# EAGLE library part PIC16F15376_CURIOSITY_NANO (library Microchip_Curiosity_Nano)
Microchip PIC16F15376 Curiosity Nano Development Platform for PIC16F15376 MCU Created by Giovanni Bernardo www.settorezero.com Description PIC16F15376 Curiosity Nano Evaluation Kit. Part NO. DM164148 Link to Microchip webpage about PIC16F15376 Curiosity Nano <https://www.microchip.com/DevelopmentTools/ProductDetails/PartNO/DM164148>
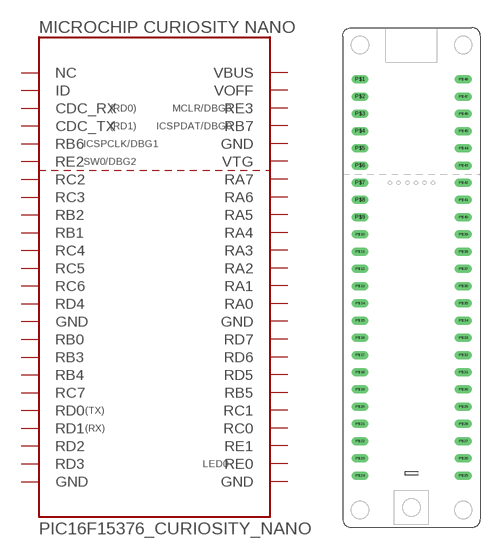
[diagram p0: symbol with the pads of 48PIN_CURIOSITY_NANO; footprint 48PIN_CURIOSITY_NANO]

Designator prefix -

## PIC16F15376_CURIOSITY_NANO  [48PIN_CURIOSITY_NANO]
P$1  NC  nc
P$2  ID
P$3  CDC_RX
P$4  CDC_TX
P$5  RB6
P$6  RE2
P$7  RC2
P$8  RC3
P$9  RB2
P$10  RB1
P$11  RC4
P$12  RC5
P$13  RC6
P$14  RD4
P$15  GND  pwr
P$16  RB0
P$17  RB3
P$18  RB4
P$19  RC7
P$20  RD0
P$21  RD1
P$22  RD2
P$23  RD3
P$24  GND  pwr
P$25  GND  pwr
P$26  RE0
P$27  RE1
P$28  RC0
P$29  RC1
P$30  RB5
P$31  RD5
P$32  RD6
P$33  RD7
P$34  GND  pwr
P$35  RA0
P$36  RA1
P$37  RA2
P$38  RA3
P$39  RA4
P$40  RA5
P$41  RA6
P$42  RA7
P$43  VTG  pwr
P$44  GND  pwr
P$45  RB7
P$46  RE3
P$47  VOFF  pwr
P$48  VBUS  pwr

## Footprint 48PIN_CURIOSITY_NANO (pad centres in mm)
48 pin Microchip Curiosity Nano Layout
drill 0.635 pad 1.27 long: P$1 0,-5.08; P$2 0,-7.62; P$3 0,-10.16; P$4 0,-12.7; P$5 0,-15.24; P$6 0,-17.78; P$7 0,-20.32; P$8 0,-22.86; P$9 0,-25.4; P$10 0,-27.94; P$11 0,-30.48; P$12 0,-33.02; P$13 0,-35.56; P$14 0,-38.1; P$15 0,-40.64; P$16 0,-43.18; P$17 0,-45.72; P$18 0,-48.26; P$19 0,-50.8; P$20 0,-53.34; P$21 0,-55.88; P$22 0,-58.42; P$23 0,-60.96; P$24 0,-63.5; P$25 15.24,-63.5; P$26 15.24,-60.96; P$27 15.24,-58.42; P$28 15.24,-55.88; P$29 15.24,-53.34; P$30 15.24,-50.8; P$31 15.24,-48.26; P$32 15.24,-45.72; P$33 15.24,-43.18; P$34 15.24,-40.64; P$35 15.24,-38.1; P$36 15.24,-35.56; P$37 15.24,-33.02; P$38 15.24,-30.48; P$39 15.24,-27.94; P$40 15.24,-25.4; P$41 15.24,-22.86; P$42 15.24,-20.32; P$43 15.24,-17.78; P$44 15.24,-15.24; P$45 15.24,-12.7; P$46 15.24,-10.16; P$47 15.24,-7.62; P$48 15.24,-5.08